# Altium footprint library via_features_and_all_primitives.PcbLib: 1 footprints
Each footprint in its own frame and in the unit in brackets; x right, y up, seen from the top. Pads: shape width x height; smd on the part's side, far side on the other; paste and mask are expansions set on the pad; w line width, h text height; cw(c..) or ccw(c..) is an arc to the next point about the centre after c.
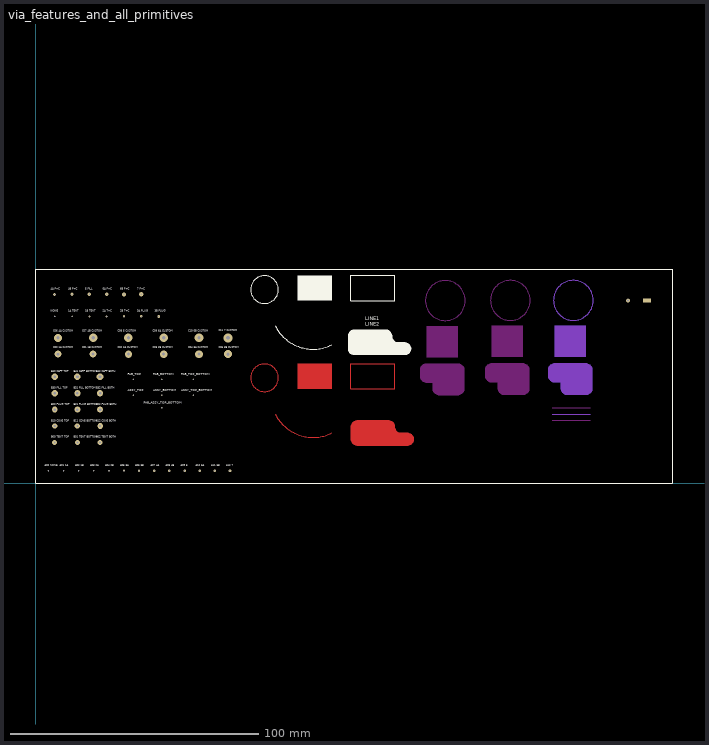
[diagram p0: the footprint, top view; thin cyan lines are the x and y axes]

## via_features_and_all_primitives [mil]
pads (2):
  round 60 hole 30: 1(9400,2900)
  rect 120x60 smd: 2(9700,2900)
via 2000,1200 diameter 24 hole 10
via 2500,1400 diameter 24 hole 10
via 2000,1400 diameter 24 hole 10
via 1550,1400 diameter 24 hole 10
via 2500,1650 diameter 24 hole 10
via 2000,1650 diameter 24 hole 10
via 1550,1650 diameter 24 hole 10
via 3050,2310 diameter 143 hole 56
via 2590,2310 diameter 140 hole 55
via 2030,2310 diameter 137 hole 54
via 1470,2310 diameter 134 hole 53
via 910,2310 diameter 131 hole 52
via 350,2310 diameter 128 hole 51
via 3050,2050 diameter 125 hole 50
via 2590,2050 diameter 122 hole 49
via 2030,2050 diameter 119 hole 48
via 1470,2050 diameter 116 hole 47
via 910,2050 diameter 113 hole 46
via 350,2050 diameter 110 hole 45
via 1020,1690 diameter 106 hole 44
via 660,1690 diameter 105 hole 43
via 300,1690 diameter 104 hole 42
via 1020,1430 diameter 100 hole 41
via 660,1430 diameter 99 hole 40
via 300,1430 diameter 98 hole 39
via 1020,1170 diameter 94 hole 38
via 660,1170 diameter 93 hole 37
via 300,1170 diameter 92 hole 36
via 1020,910 diameter 88 hole 35
via 660,910 diameter 87 hole 34
via 300,910 diameter 86 hole 33
via 1020,650 diameter 82 hole 32
via 660,650 diameter 81 hole 31
via 300,650 diameter 80 hole 30
via 3080,200 diameter 46 hole 22
via 2840,200 diameter 44 hole 21
via 2600,200 diameter 42 hole 20
via 2360,200 diameter 40 hole 19
via 2120,200 diameter 38 hole 18
via 1880,200 diameter 36 hole 17
via 1640,200 diameter 34 hole 16
via 1400,200 diameter 32 hole 15
via 1160,200 diameter 30 hole 14
via 920,200 diameter 28 hole 13
via 680,200 diameter 26 hole 12
via 440,200 diameter 24 hole 11
via 200,200 diameter 22 hole 10
via 300,2650 diameter 20 hole 10
via 575,2650 diameter 24 hole 11
via 850,2650 diameter 28 hole 12
via 1125,2650 diameter 32 hole 13
via 1400,2650 diameter 36 hole 14
via 1675,2650 diameter 40 hole 15
via 1950,2650 diameter 44 hole 16
via 300,3000 diameter 48 hole 17
via 575,3000 diameter 52 hole 18
via 850,3000 diameter 56 hole 19
via 1125,3000 diameter 60 hole 20
via 1400,3000 diameter 64 hole 21
via 1675,3000 diameter 68 hole 22
Top Layer:
  circle w10: c3630,1675 r219.15
  rectangle: 4150,1500 4700,1900
  region: 5100,600 5900,600 5909.85,600 5929.17,603.84 5947.37,611.38 5963.75,622.32 5977.68,636.25 5988.62,652.63 5996.16,670.83 6000,690.15 6000,700 6000,709.85 5996.16,729.17 5988.62,747.37 5977.68,763.75 5963.75,777.67 5947.37,788.62 5929.17,796.16 5909.85,800 5900,800 5800,800 5790.2,800.48 5770.97,804.31 5752.86,811.81 5736.56,822.7 5722.7,836.56 5711.81,852.86 5704.31,870.97 5700.48,890.2 5700,900 5700,909.85 5696.16,929.17 5688.62,947.37 5677.68,963.75 5663.75,977.67 5647.37,988.62 5629.17,996.16 5609.85,1000 5600,1000 5100,1000 5090.15,1000 5070.83,996.16 5052.63,988.62 5036.25,977.67 5022.32,963.75 5011.38,947.37 5003.84,929.17 5000,909.85 5000,900 5000,700 5000,690.15 5003.84,670.83 5011.38,652.63 5022.32,636.25 5036.25,622.32 5052.63,611.38 5070.83,603.84 5090.15,600
  lines w10: 3800,1100 ccw(c4400,1400) 4700,800 ; 5000,1500 5700,1500 5700,1900 5000,1900 5000,1500
  text "LINE1 / LINE2" at 5230.05,1102.02 h60
Top Layer keep-out:
  circle w10: c7532.23,2904.2 r316.23
  rectangle: 7232.23,2004.2 7732.23,2504.2
  region: 7132.23,1704.2 7132.23,1804.2 7132.23,1814.05 7136.07,1833.37 7143.61,1851.57 7154.56,1867.95 7168.48,1881.88 7184.86,1892.82 7203.06,1900.36 7222.38,1904.2 7232.23,1904.2 7732.23,1904.2 7742.08,1904.2 7761.4,1900.36 7779.6,1892.82 7795.98,1881.88 7809.91,1867.95 7820.85,1851.57 7828.39,1833.37 7832.23,1814.05 7832.23,1804.2 7832.23,1504.2 7832.23,1494.36 7828.39,1475.04 7820.85,1456.84 7809.91,1440.46 7795.98,1426.53 7779.6,1415.59 7761.4,1408.05 7742.08,1404.2 7732.23,1404.2 7432.23,1404.2 7422.38,1404.2 7403.06,1408.05 7384.86,1415.59 7368.48,1426.53 7354.56,1440.46 7343.61,1456.84 7336.07,1475.04 7332.23,1494.36 7332.23,1504.2 7332.23,1604.2 7232.23,1604.2 7222.38,1604.2 7203.06,1608.05 7184.86,1615.59 7168.48,1626.53 7154.56,1640.46 7143.61,1656.84 7136.07,1675.04 7132.23,1694.36
  lines w10: 8200,1200 8800,1200
Bottom Layer keep-out:
  circle w10: c8532.23,2904.2 r316.23
  rectangle: 8232.23,2004.2 8732.23,2504.2
  region: 8132.23,1704.2 8132.23,1804.2 8132.23,1814.05 8136.07,1833.37 8143.61,1851.57 8154.56,1867.95 8168.48,1881.88 8184.86,1892.82 8203.06,1900.36 8222.38,1904.2 8232.23,1904.2 8732.23,1904.2 8742.08,1904.2 8761.4,1900.36 8779.6,1892.82 8795.98,1881.88 8809.91,1867.95 8820.85,1851.57 8828.39,1833.37 8832.23,1814.05 8832.23,1804.2 8832.23,1504.2 8832.23,1494.36 8828.39,1475.04 8820.85,1456.84 8809.91,1440.46 8795.98,1426.53 8779.6,1415.59 8761.4,1408.05 8742.08,1404.2 8732.23,1404.2 8432.23,1404.2 8422.38,1404.2 8403.06,1408.05 8384.86,1415.59 8368.48,1426.53 8354.56,1440.46 8343.61,1456.84 8336.07,1475.04 8332.23,1494.36 8332.23,1504.2 8332.23,1604.2 8232.23,1604.2 8222.38,1604.2 8203.06,1608.05 8184.86,1615.59 8168.48,1626.53 8154.56,1640.46 8143.61,1656.84 8136.07,1675.04 8132.23,1694.36
  lines w10: 8200,1100 8800,1100
Top Overlay:
  circle w10: c3630,3075 r219.15
  rectangle: 4150,2900 4700,3300
  region: 5055.75,2038.2 5855.75,2038.2 5865.6,2038.2 5884.92,2042.04 5903.12,2049.58 5919.5,2060.52 5933.43,2074.45 5944.37,2090.83 5951.91,2109.03 5955.75,2128.35 5955.75,2138.2 5955.75,2148.04 5951.91,2167.36 5944.37,2185.56 5933.43,2201.94 5919.5,2215.87 5903.12,2226.81 5884.92,2234.35 5865.6,2238.2 5855.75,2238.2 5755.75,2238.2 5745.95,2238.68 5726.72,2242.5 5708.61,2250 5692.31,2260.89 5678.45,2274.76 5667.56,2291.06 5660.06,2309.17 5656.23,2328.39 5655.75,2338.2 5655.75,2348.04 5651.91,2367.36 5644.37,2385.56 5633.43,2401.94 5619.5,2415.87 5603.12,2426.81 5584.92,2434.35 5565.6,2438.2 5555.75,2438.2 5055.75,2438.2 5045.9,2438.2 5026.58,2434.35 5008.38,2426.81 4992,2415.87 4978.08,2401.94 4967.13,2385.56 4959.59,2367.36 4955.75,2348.04 4955.75,2338.2 4955.75,2138.2 4955.75,2128.35 4959.59,2109.03 4967.13,2090.83 4978.08,2074.45 4992,2060.52 5008.38,2049.58 5026.58,2042.04 5045.9,2038.2
  lines w10: 3800,2500 ccw(c4400,2800) 4700,2200 ; 0,0 10100,0 10100,3400 0,3400 0,0 ; 5000,2900 5700,2900 5700,3300 5000,3300 5000,2900
  text "FAB_ASSY_TOP_BOTTOM" at 1710,1265.33 h32
  text "ASSY_TOP_BOTTOM" at 2310,1465.33 h32
  text "ASSY_BOTTOM" at 1860,1465.33 h32
  text "ASSY_TOP" at 1460,1465.33 h32
  text "FAB_TOP_BOTTOM" at 2310,1715.33 h32
  text "FAB_BOTTOM" at 1860,1715.33 h32
  text "FAB_TOP" at 1460,1715.33 h32
  text "LINE1 / LINE2" at 5230.05,2502.02 h60
  text "7 F+C" at 1613,3070 h28
  text "6B F+C" at 1338,3070 h28
  text "6A F+C" at 1063,3070 h28
  text "5 FILL" at 788,3070 h28
  text "4B P+C" at 513,3070 h28
  text "4A P+C" at 238,3070 h28
  text "NONE" at 238,2720 h28
  text "1A TENT" at 513,2720 h28
  text "1B TENT" at 788,2720 h28
  text "2A T+C" at 1063,2720 h28
  text "3A PLUG" at 1613,2720 h28
  text "2B T+C" at 1338,2720 h28
  text "3B PLUG" at 1888,2720 h28
  text "C11 7 CUSTOM" at 2905,2410 h25
  text "C10 6B CUSTOM" at 2417,2405 h25
  text "C09 6A CUSTOM" at 1857,2405 h25
  text "C08 5 CUSTOM" at 1297,2405 h25
  text "C07 4B CUSTOM" at 737,2405 h25
  text "C06 4A CUSTOM" at 277,2405 h25
  text "C05 3B CUSTOM" at 2900,2145 h25
  text "C04 3A CUSTOM" at 2417,2145 h25
  text "C03 2B CUSTOM" at 1857,2145 h25
  text "C02 2A CUSTOM" at 1297,2145 h25
  text "C01 1B CUSTOM" at 737,2145 h25
  text "C00 1A CUSTOM" at 277,2145 h25
  text "B42 CAPP BOTH" at 962,1760 h25
  text "B41 CAPP BOTTOM" at 602,1760 h25
  text "B40 CAPP TOP" at 242,1760 h25
  text "B32 FILL BOTH" at 962,1500 h25
  text "B31 FILL BOTTOM" at 602,1500 h25
  text "B30 FILL TOP" at 242,1500 h25
  text "B22 PLUG BOTH" at 962,1240 h25
  text "B21 PLUG BOTTOM" at 602,1240 h25
  text "B20 PLUG TOP" at 242,1240 h25
  text "B12 COVE BOTH" at 962,980 h25
  text "B11 COVE BOTTOM" at 602,980 h25
  text "B10 COVE TOP" at 242,980 h25
  text "B02 TENT BOTH" at 962,720 h25
  text "B01 TENT BOTTOM" at 602,720 h25
  text "B00 TENT TOP" at 242,720 h25
  text "A12 7" at 3022,270 h25
  text "A11 6B" at 2782,270 h25
  text "A10 6A" at 2542,270 h25
  text "A09 5" at 2302,270 h25
  text "A08 4B" at 2062,270 h25
  text "A07 4A" at 1822,270 h25
  text "A06 3B" at 1582,270 h25
  text "A05 3A" at 1342,270 h25
  text "A04 2B" at 1102,270 h25
  text "A03 2A" at 862,270 h25
  text "A02 1B" at 622,270 h25
  text "A01 1A" at 382,270 h25
  text "A00 NONE" at 142,270 h25
Keep-Out Layer:
  circle w10: c6500,2900 r316.23
  rectangle: 6200,2000 6700,2500
  region: 6100,1700 6100,1800 6100,1809.85 6103.84,1829.17 6111.38,1847.37 6122.32,1863.75 6136.25,1877.67 6152.63,1888.62 6170.83,1896.16 6190.15,1900 6200,1900 6700,1900 6709.85,1900 6729.17,1896.16 6747.37,1888.62 6763.75,1877.67 6777.68,1863.75 6788.62,1847.37 6796.16,1829.17 6800,1809.85 6800,1800 6800,1500 6800,1490.15 6796.16,1470.83 6788.62,1452.63 6777.68,1436.25 6763.75,1422.32 6747.37,1411.38 6729.17,1403.84 6709.85,1400 6700,1400 6400,1400 6390.15,1400 6370.83,1403.84 6352.63,1411.38 6336.25,1422.32 6322.32,1436.25 6311.38,1452.63 6303.84,1470.83 6300,1490.15 6300,1500 6300,1600 6200,1600 6190.15,1600 6170.83,1603.84 6152.63,1611.38 6136.25,1622.32 6122.32,1636.25 6111.38,1652.63 6103.84,1670.83 6100,1690.15
  lines w10: 8200,1000 8800,1000